# EAGLE library part FPC-PAD-0.5-20P (library Connector)
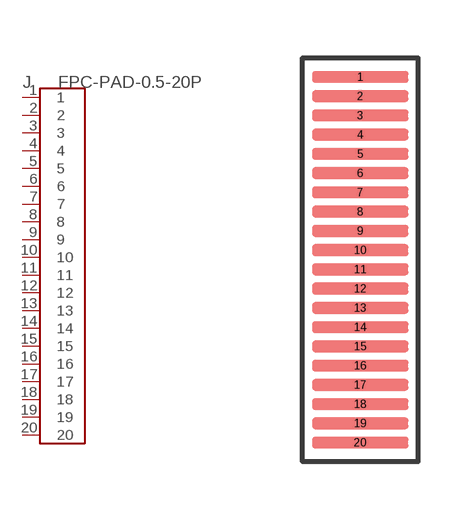
[diagram p2: symbol with the pads of 20P-0.5; footprint 20P-0.5]

Designator prefix J

## FPC-PAD-0.5-20P-PAD  [20P-0.5]
1  1
2  2
3  3
4  4
5  5
6  6
7  7
8  8
9  9
10  10
11  11
12  12
13  13
14  14
15  15
16  16
17  17
18  18
19  19
20  20

## Footprint 20P-0.5 (pad centres in mm)
smd 2.5 x 0.3: 1 0,4.75; 2 0,4.25; 3 0,3.75; 4 0,3.25; 5 0,2.75; 6 0,2.25; 7 0,1.75; 8 0,1.25; 9 0,0.75; 10 0,0.25; 11 0,-0.25; 12 0,-0.75; 13 0,-1.25; 14 0,-1.75; 15 0,-2.25; 16 0,-2.75; 17 0,-3.25; 18 0,-3.75; 19 0,-4.25; 20 0,-4.75